# Altium footprint library Altium_Box_Header_MP4C_Mini.PcbLib: 3 footprints
Each footprint in its own frame and in the unit in brackets; x right, y up, seen from the top. Pads: shape width x height; smd on the part's side, far side on the other; paste and mask are expansions set on the pad; w line width, h text height; cw(c..) or ccw(c..) is an arc to the next point about the centre after c.
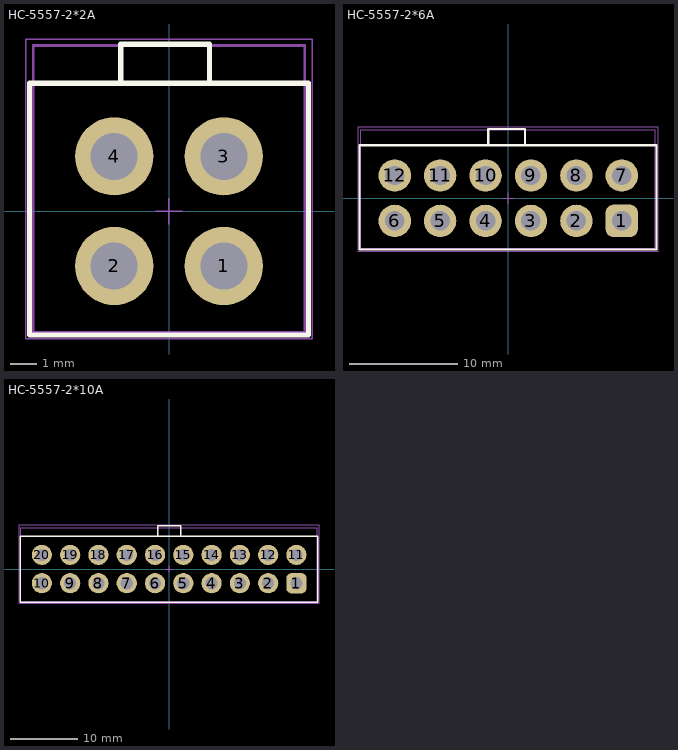
[diagram p0: the footprints below, top view; thin cyan lines are the x and y axes]

## HC-5557-2*2A [mm] "4.20mm Male Dual Row Vertical Header, 4p"
height 12.8
pads (4):
  round 3 hole 1.8: 1(2.1,-2.1) 2(-2.1,-2.1) 3(2.1,2.1) 4(-2.1,2.1)
Top Overlay:
  lines w0.2: -1.85,4.9 -1.85,6.4 1.55,6.4 1.55,4.9 ; -5.35,-4.75 5.35,-4.75 5.35,4.9 -5.35,4.9 -5.35,-4.75
Top Designator:
  text ".Designator" at -7.498,-0.5 h1.5
Top 3D Body:
  lines w0.1: -5.2,-4.65 -5.2,6.35 5.2,6.35 5.2,-4.65 -5.2,-4.65
Top Courtyard:
  lines w0.05: -0.5,0 0.5,0 ; 0,-0.5 0,0.5 ; -5.5,-4.9 -5.5,6.6 5.5,6.6 5.5,-4.9 -5.5,-4.9
3D body "039281043.stp": height 12.8, standoff -3.5, extent -5.214,-4.645 5.183,6.355

## HC-5557-2*6A [mm] "4.20mm Male Dual Row Vertical Header, 12p"
height 12.8
pads (12):
  rrect50% 3x3 hole 1.8: 1(10.5,-2.1)
  round 3 hole 1.8: 2(6.3,-2.1) 3(2.1,-2.1) 4(-2.1,-2.1) 5(-6.3,-2.1) 6(-10.5,-2.1) 7(10.5,2.1) 8(6.3,2.1) 9(2.1,2.1) 10(-2.1,2.1) 11(-6.3,2.1) 12(-10.5,2.1)
Top Overlay:
  lines w0.2: -1.85,4.9 -1.85,6.4 1.55,6.4 1.55,4.9 ; -13.75,-4.75 -13.75,4.9 13.7,4.9 13.7,-4.75 -13.75,-4.75
Top Designator:
  text ".Designator" at -7.498,-0.5 h1.5
Top 3D Body:
  lines w0.1: -13.65,-4.65 13.6,-4.65 13.6,6.35 -13.65,6.35 -13.65,-4.65
Top Courtyard:
  lines w0.05: -0.5,0 0.5,0 ; 0,-0.5 0,0.5 ; -13.9,-4.9 13.85,-4.9 13.85,6.6 -13.9,6.6 -13.9,-4.9
3D body "039281123.stp": height 12.8, standoff -3.5, extent -13.6,-4.65 13.597,6.35

## HC-5557-2*10A [mm] "4.20mm Male Dual Row Vertical Header, 20p"
height 12.8
pads (20):
  rrect50% 3x3 hole 1.8: 1(18.9,-2.1)
  round 3 hole 1.8: 2(14.7,-2.1) 3(10.5,-2.1) 4(6.3,-2.1) 5(2.1,-2.1) 6(-2.1,-2.1) 7(-6.3,-2.1) 8(-10.5,-2.1) 9(-14.7,-2.1) 10(-18.9,-2.1) 11(18.9,2.1) 12(14.7,2.1) 13(10.5,2.1) 14(6.3,2.1) 15(2.1,2.1) 16(-2.1,2.1) 17(-6.3,2.1) 18(-10.5,2.1) 19(-14.7,2.1) 20(-18.9,2.1)
Top Overlay:
  lines w0.2: -1.7,4.9 -1.7,6.4 1.7,6.4 1.7,4.9 ; -22.15,-4.95 -22.15,4.9 22.1,4.9 22.1,-4.95 -22.15,-4.95
Top Designator:
  text ".Designator" at -7.498,-0.5 h1.5
Top 3D Body:
  lines w0.1: -22.05,-4.85 -22.05,6.15 22,6.15 22,-4.85 -22.05,-4.85
Top Courtyard:
  lines w0.05: -0.5,0 0.5,0 ; 0,-0.5 0,0.5 ; -22.3,-5.1 22.25,-5.1 22.25,6.6 -22.3,6.6 -22.3,-5.1
3D body "039281203.stp": height 12.8, standoff -3.5, extent -22.007,-4.834 21.991,6.166